# Altium footprint library 4.0inch_SPI.PcbLib: 2 footprints
Each footprint in its own frame and in the unit in brackets; x right, y up, seen from the top. Pads: shape width x height; smd on the part's side, far side on the other; paste and mask are expansions set on the pad; w line width, h text height; cw(c..) or ccw(c..) is an arc to the next point about the centre after c.
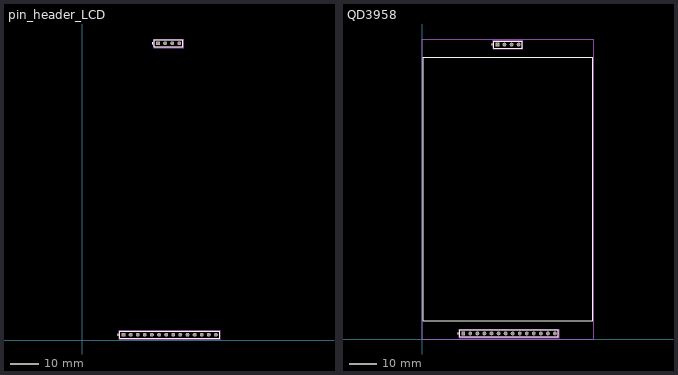
[diagram p0: the footprints below, top view; thin cyan lines are the x and y axes]

## pin_header_LCD [mm]
pads (18):
  rect 1.37x1.37 hole 1.02: 1(14.76,2) 15(27.06,106.04)
  round 1.37 hole 1.02: 2(17.3,2) 3(19.84,2) 4(22.38,2) 5(24.92,2) 6(27.46,2) 7(30,2) 8(32.54,2) 9(35.08,2) 10(37.62,2) 11(40.16,2) 12(42.7,2) 13(45.24,2) 14(47.78,2) 16(29.6,106.025) 17(32.14,106.04) 18(34.68,106.04)
Top Overlay:
  circle w0.2: c25.14,106.04 r0.1
  circle w0.2: c12.84,2 r0.1
  lines w0.2: 13.49,0.73 13.49,3.27 49.05,3.27 49.05,0.73 13.49,0.73 ; 25.79,104.77 35.95,104.77 35.95,107.31 25.79,107.31 25.79,104.77
Mechanical 13:
  circle w0.2: c25.14,106.04 r0.1
  circle w0.2: c12.84,2 r0.1
  lines w0.1: 13.49,0.73 49.05,0.73 49.05,3.27 13.49,3.27 13.49,0.73 ; 25.79,104.77 35.95,104.77 35.95,107.31 25.79,107.31 25.79,104.77
Mechanical 15:
  lines w0.05: 13.24,0.48 49.3,0.48 49.3,3.52 13.24,3.52 13.24,0.48 ; 25.54,104.52 36.2,104.52 36.2,107.56 25.54,107.56 25.54,104.52

## QD3958 [mm]
pads (18):
  rect 1.37x1.37 hole 1.02: 1(14.76,2) 15(27.06,106.04)
  round 1.37 hole 1.02: 2(17.3,2) 3(19.84,2) 4(22.38,2) 5(24.92,2) 6(27.46,2) 7(30,2) 8(32.54,2) 9(35.08,2) 10(37.62,2) 11(40.16,2) 12(42.7,2) 13(45.24,2) 14(47.78,2) 16(29.6,106.04) 17(32.14,106.04) 18(34.68,106.04)
Top Overlay:
  circle w0.2: c12.84,2 r0.1
  circle w0.2: c25.14,106.04 r0.1
  lines w0.2: 13.49,0.73 49.05,0.73 49.05,3.27 13.49,3.27 13.49,0.73 ; 25.79,104.77 25.79,107.31 35.95,107.31 35.95,104.77 25.79,104.77
  lines w0.254: 0.4,6.54 61.4,6.54 61.4,101.54 0.4,101.54 0.4,6.54
Mechanical 1:
  lines w0.254: 0,0 61.74,0 61.74,108.04 0,108.04 0,0
Mechanical 13:
  circle w0.2: c12.84,2 r0.1
  circle w0.2: c25.14,106.04 r0.1
  lines w0.1: 13.49,0.73 13.49,3.27 49.05,3.27 49.05,0.73 13.49,0.73 ; 25.79,104.77 25.79,107.31 35.95,107.31 35.95,104.77 25.79,104.77
Mechanical 15:
  lines w0.05: 13.24,0.48 13.24,3.52 49.3,3.52 49.3,0.48 13.24,0.48 ; 25.54,104.52 25.54,107.56 36.2,107.56 36.2,104.52 25.54,104.52
Multi-Layer:
  circle w0.254: c58.74,105.04 r1.6
  circle w0.254: c58.74,3.42 r1.6
  circle w0.254: c3,3.42 r1.6
  circle w0.254: c3.42,105.04 r1.6